# EAGLE library part 615006149421L (library Eagle_WR-MJ (rev23b))
WR-MJ Modular Jack Horizontal Plastic 6P6C Assembly Tab Up KIND PROPERTIES Quality Class:500 Mating cycles General Information Operating Temperature:-40 up to +85 °C Compliance: RoHS Electrical Properties IR 1:1.5A Working Voltage:120V (AC) Withstanding Voltage:1000V (AC) Contact Resistance:20mΩ RISO:500 MΩ Material Properties Insulator MateriaL:PBT Insulator Flammability Rating:UL94 V-0 Color:Black Contact Material Copper Alloy Contact Plating:Gold Contact Type:Stamped Shielding Material:Brass Shielding Plating:Nickel Packaging Properties Packaging:Tray <https://www.we-online.com/catalog/media/o33122v209%20Family_Con_WR-MJ_Horizontal_Plastic_6150xx149421_pf2.jpg> Details see: https://www.we-online.com/catalog/en/MJ_HORIZONTAL_PLASTIC_ASSEMBLY_6P6C_TAB_UP/ Updated by Yingchun,Shan 2020-01-06 2020 (C) Würth Elektronik
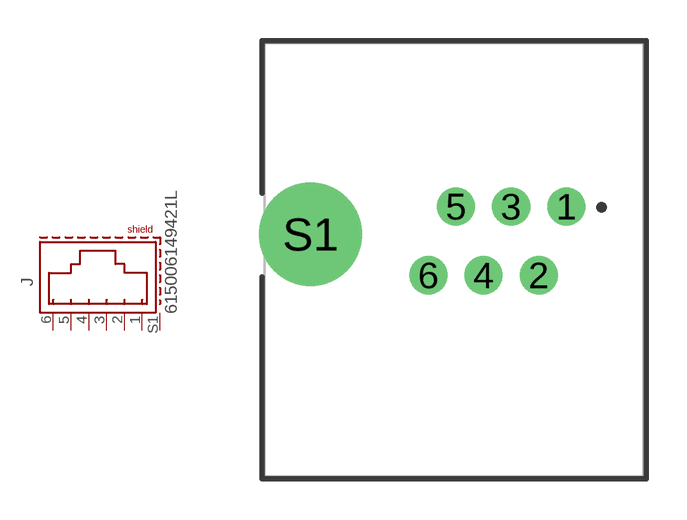
[diagram p43: symbol with the pads of 615006149421L; footprint 615006149421L]

Designator prefix J

## 615006149421L (DATASHEET-URL: https://www.we-online.com/redexpert/spec/615006149421L?ae; MOUNT: THT; PART-NUMBER: 615006149421L; TYPE: Horizontal; VALUE: 615006149421L; XPXC: 6P6C)  [615006149421L]
1  1  pas
2  2  pas
3  3  pas
4  4  pas
5  5  pas
6  6  pas
S1  SHIELD  pas

## Footprint 615006149421L (pad centres in mm)
WR-MJ Modular Jack Horizontal Plastic 6P6C Assembly Tab Up
drill 0.9: 1 5.1,1; 2 4.08,-1.54; 3 3.06,1; 4 2.04,-1.54; 5 1.02,1; 6 0,-1.54
drill 2.8: S1 -4.35,-0.03